# Altium footprint library LSM9DS1TR.PcbLib: 2 footprints
Each footprint in its own frame and in the unit in brackets; x right, y up, seen from the top. Pads: shape width x height; smd on the part's side, far side on the other; paste and mask are expansions set on the pad; w line width, h text height; cw(c..) or ccw(c..) is an arc to the next point about the centre after c.
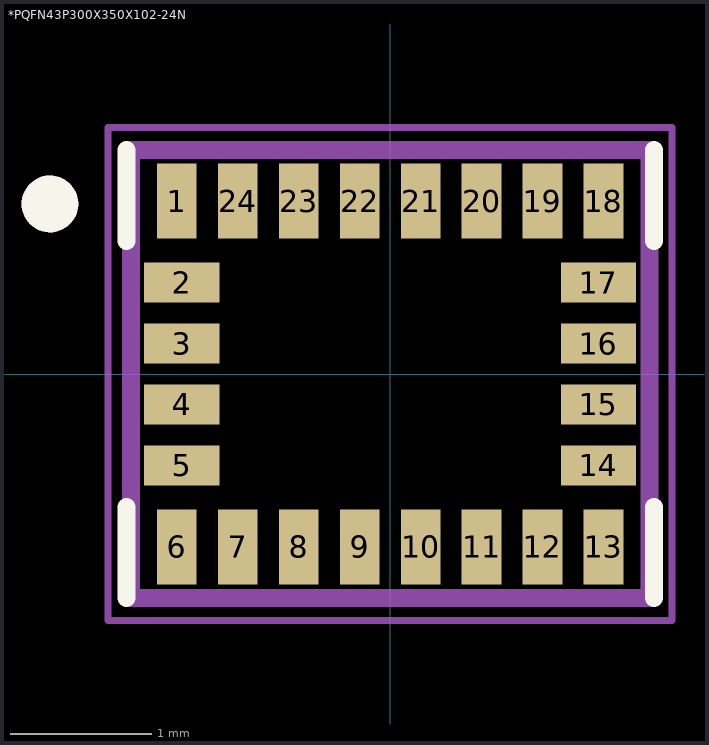
[diagram p0: the footprints below, top view; thin cyan lines are the x and y axes]

## *PQFN43P300X350X102-24N [mm]
pads (24):
  rect 0.28x0.53 smd: 1(-1.505,1.22) 6(-1.505,-1.22) 7(-1.075,-1.22) 8(-0.645,-1.22) 9(-0.215,-1.22) 10(0.215,-1.22) 11(0.645,-1.22) 12(1.075,-1.22) 13(1.505,-1.22) 18(1.505,1.22) 19(1.075,1.22) 20(0.645,1.22) 21(0.215,1.22) 22(-0.215,1.22) 23(-0.645,1.22) 24(-1.075,1.22)
  rect 0.53x0.28 smd: 2(-1.47,0.645) 3(-1.47,0.215) 4(-1.47,-0.215) 5(-1.47,-0.645) 14(1.47,-0.645) 15(1.47,-0.215) 16(1.47,0.215) 17(1.47,0.645)
Top Overlay:
  circle w0.2: c-2.4,1.2 r0.1
  lines w0.127: -1.86,-1.58 -1.86,-0.94 ; -1.86,0.94 -1.86,1.58 ; 1.86,-1.58 1.86,-0.94 ; 1.86,0.94 1.86,1.58
Mechanical 4:
  circle w0.2: c-2.4,1.2 r0.1
  circle w0.2: c-2.4,1.2 r0.1
  lines w0.127: -1.83,-1.58 1.83,-1.58 ; -1.83,-1.58 -1.83,1.58 ; -1.83,-1.58 1.83,-1.58 ; -1.83,-1.58 -1.83,1.58 ; -1.83,1.58 1.83,1.58 ; -1.83,1.58 1.83,1.58 ; 1.83,-1.58 1.83,1.58 ; 1.83,-1.58 1.83,1.58
Mechanical 16:
  lines w0.05: -1.99,-1.74 1.99,-1.74 1.99,1.74 -1.99,1.74 -1.99,-1.74

## PCBComponent_1 [mm]